# EAGLE library part TTP224N (library My Eagle Lib)
The TTP224N-BSB TonTouchTM IC is capacitive sensing design specifically for touch pad controls. The device built in regulator for touch sensor. Stable sensing method can cover diversity conditions. Human interfaces control panel links through non-conductive dielectric material. The main application is focused at replacing of the mechanical switch or button. The ASSP can independently handle the 4 touch pads with 4 direct output pins.
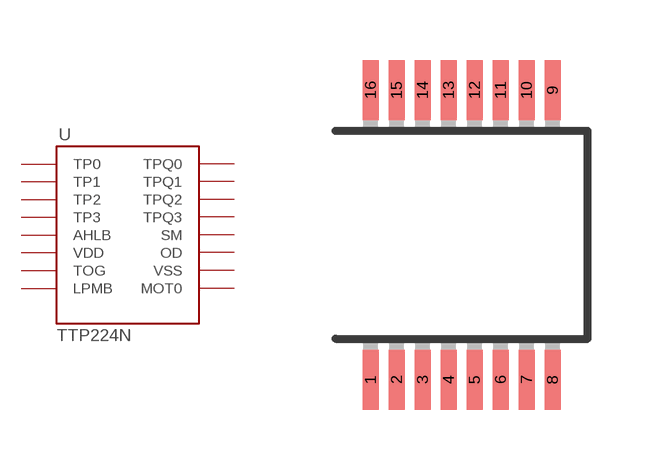
[diagram p0: symbol with the pads of SSOP16; footprint SSOP16]

Designator prefix U

## TTP224NSSOP  [SSOP16]
1  TP0
2  TP1
3  TP2
4  TP3
5  AHLB
6  VDD  pwr
7  TOG
8  LPMB
9  MOT0
10  VSS  pwr
11  OD
12  SM
13  TPQ3  out
14  TPQ2  out
15  TPQ1  out
16  TPQ0  out

## Footprint SSOP16 (pad centres in mm)
smd 0.4 x 1.5: 1 -2.275,-3.625; 2 -1.625,-3.625; 3 -0.975,-3.625; 4 -0.325,-3.625; 5 0.325,-3.625; 6 0.975,-3.625; 7 1.625,-3.625; 8 2.275,-3.625; 9 2.275,3.625; 10 1.625,3.625; 11 0.975,3.625; 12 0.325,3.625; 13 -0.325,3.625; 14 -0.975,3.625; 15 -1.625,3.625; 16 -2.275,3.625